# EAGLE library part STL36DN6F7 (library STL36DN6F7)
Dual N-channel 60 V, 23 m typ., 33 A STripFET F7 Power MOSFET in a PowerFLAT 5x6 double island package Source: Datasheet <https://www.st.com/resource/en/datasheet/stl36dn6f7.pdf>
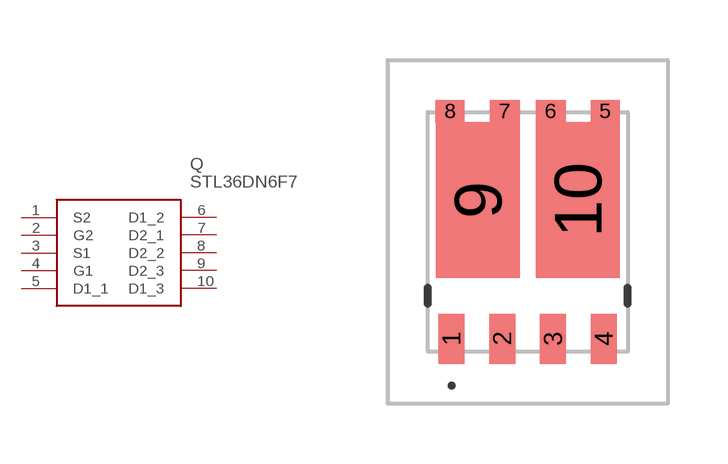
[diagram p0: symbol with the pads of STL36DN6F7; footprint STL36DN6F7]

Designator prefix Q

## STL36DN6F7 (Description: Dual N-channel 60 V, 23 m typ., 33 A STripFET F7 Power MOSFET in a PowerFLAT 5x6 double island package; Height: mm; Manufacturer_Name: STMicroelectronics; Manufacturer_Part_Number: STL36DN6F7; Mouser_Part_Number: 511-STL36DN6F7; Mouser_Price-Stock: https://www.mouser.co.uk/ProductDetail/STMicroelectronics/STL36DN6F7/?qs=u4fy%2FsgLU9MwLM2KeqBprA%3D%3D)  [STL36DN6F7]
1  S2
2  G2
3  S1
4  G1
5  D1_1
6  D1_2
7  D2_1
8  D2_2
9  D2_3
10  D1_3

## Footprint STL36DN6F7 (pad centres in mm)
PowerFLAT 5x6 double island_2022
smd 0.65 x 1.25: 1 -1.905,-2.675; 2 -0.635,-2.675; 3 0.635,-2.675; 4 1.905,-2.675
smd 0.725 x 0.55: 5 1.938,3.025; 8 -1.938,3.025
smd 0.75 x 0.55: 6 0.575,3.025; 7 -0.575,3.025
smd 2.1 x 3.9: 9 -1.25,0.8; 10 1.25,0.8